# Altium footprint library TI TSSOP-16 PW.PcbLib: 1 footprints
Each footprint in its own frame and in the unit in brackets; x right, y up, seen from the top. Pads: shape width x height; smd on the part's side, far side on the other; paste and mask are expansions set on the pad; w line width, h text height; cw(c..) or ccw(c..) is an arc to the next point about the centre after c.
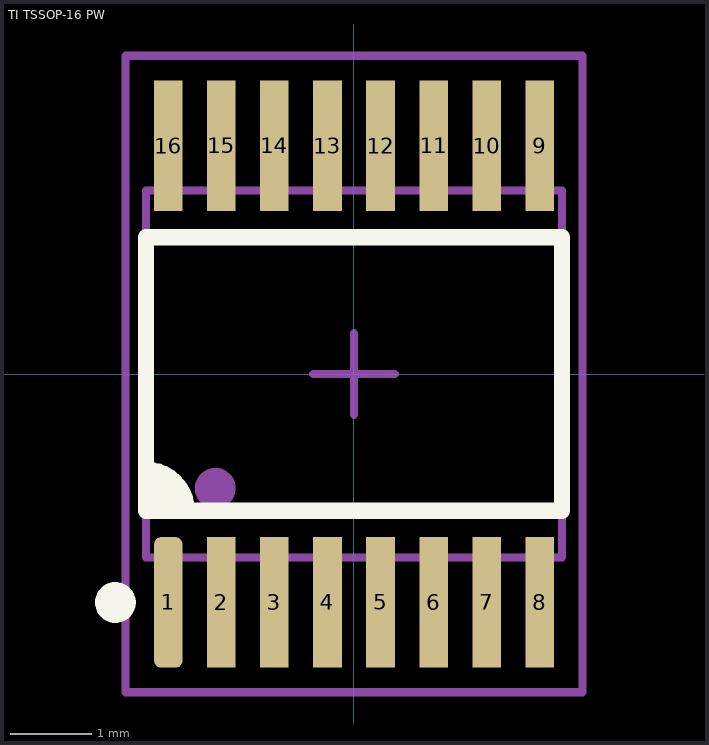
[diagram p0: the footprint, top view; thin cyan lines are the x and y axes]

## TI TSSOP-16 PW [mm] "TSSOP, 16-Leads, Body 5.00x4.40mm, Pitch 0.65mm, IPC Medium Density"
height 1.2
pads (16):
  rrect50% 0.35x1.6 smd: 1(-2.275,-2.8)
  rect 0.35x1.6 smd: 2(-1.625,-2.8) 3(-0.975,-2.8) 4(-0.325,-2.8) 5(0.325,-2.8) 6(0.975,-2.8) 7(1.625,-2.8) 8(2.275,-2.8) 9(2.275,2.8) 10(1.625,2.8) 11(0.975,2.8) 12(0.325,2.8) 13(-0.325,2.8) 14(-0.975,2.8) 15(-1.625,2.8) 16(-2.275,2.8)
Top Overlay:
  circle w0.25: c-2.925,-2.8 r0.125
  region: -2.55,-1.675 -2.55,-1.175 -2.2,-1.325 -2.05,-1.675
  lines w0.2: -2.55,-1.175 cw(c-2.55,-1.675) -2.05,-1.675 ; -2.55,-1.675 2.55,-1.675 2.55,1.675 -2.55,1.675 -2.55,-1.675
Mechanical 11:
  lines w0.1: -0.5,0 0.5,0 ; 0,-0.5 0,0.5
Mechanical 13:
  circle w0.25: c-1.7,-1.4 r0.125
  lines w0.1: -2.55,-2.25 2.55,-2.25 2.55,2.25 -2.55,2.25 -2.55,-2.25
Mechanical 15:
  lines w0.1: -2.8,-3.9 2.8,-3.9 2.8,3.9 -2.8,3.9 -2.8,-3.9
3D body "TI TSSOP-16 PW.stp": height 1.13, standoff 0, extent -2.5,-3.2 2.5,3.2